# Altium footprint library RESC3116X055.PcbLib: 3 footprints
Each footprint in its own frame and in the unit in brackets; x right, y up, seen from the top. Pads: shape width x height; smd on the part's side, far side on the other; paste and mask are expansions set on the pad; w line width, h text height; cw(c..) or ccw(c..) is an arc to the next point about the centre after c.
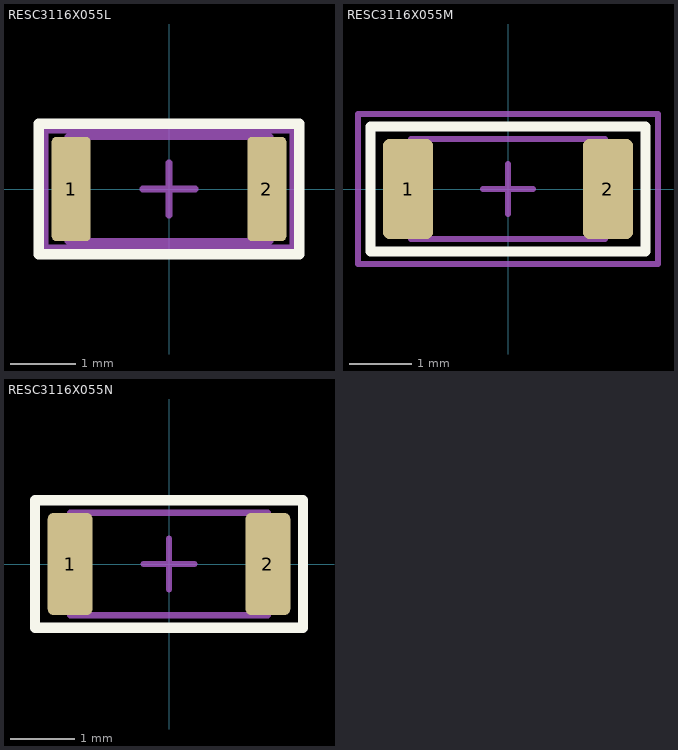
[diagram p0: the footprints below, top view; thin cyan lines are the x and y axes]

## RESC3116X055L [mm] "Resistors, Chip"
height 0.65
pads (2):
  rrect25% 0.6x1.6 smd: 1(-1.5,0) 2(1.5,0)
Top Overlay:
  lines w0.16: -2,-1 2,-1 2,1 -2,1 -2,-1
Top Component Center:
  lines w0.1: -0.4,0 0.4,0 ; 0,-0.4 0,0.4
Top Courtyard:
  lines w0.1: -1.9,-0.9 1.9,-0.9 1.9,0.9 -1.9,0.9 -1.9,-0.9
Top Assembly:
  lines w0.1: -1.55,-0.8 1.55,-0.8 1.55,0.8 -1.55,0.8 -1.55,-0.8
  text ".Designator" at 0,0 h1
3D body "RESC3116X055L.STEP": height 0.55, standoff 0, extent -1.55,-0.8 1.55,0.8

## RESC3116X055M [mm] "Resistors, Chip"
height 0.65
pads (2):
  rrect25% 0.8x1.6 smd: 1(-1.6,0) 2(1.6,0)
Top Overlay:
  lines w0.16: -2.2,-1 2.2,-1 2.2,1 -2.2,1 -2.2,-1
Top Component Center:
  lines w0.1: -0.4,0 0.4,0 ; 0,-0.4 0,0.4
Top Courtyard:
  lines w0.1: -2.4,-1.2 2.4,-1.2 2.4,1.2 -2.4,1.2 -2.4,-1.2
Top Assembly:
  lines w0.1: -1.55,-0.8 1.55,-0.8 1.55,0.8 -1.55,0.8 -1.55,-0.8
  text ".Designator" at 0,0 h1
3D body "RESC3116X055M.STEP": height 0.55, standoff 0, extent -1.55,-0.8 1.55,0.8

## RESC3116X055N [mm] "Resistors, Chip"
height 0.65
pads (2):
  rrect25% 0.7x1.6 smd: 1(-1.55,0) 2(1.55,0)
Top Overlay:
  lines w0.16: -2.1,-1 2.1,-1 2.1,1 -2.1,1 -2.1,-1
Top Component Center:
  lines w0.1: -0.4,0 0.4,0 ; 0,-0.4 0,0.4
Top Courtyard:
  lines w0.1: -2.1,-1 2.1,-1 2.1,1 -2.1,1 -2.1,-1
Top Assembly:
  lines w0.1: -1.55,-0.8 1.55,-0.8 1.55,0.8 -1.55,0.8 -1.55,-0.8
  text ".Designator" at 0,0 h1
3D body "RESC3116X055N.STEP": height 0.55, standoff 0, extent -1.55,-0.8 1.55,0.8